# Altium schematic symbol library PREN2Lib.SchLib: 12 symbols
Pins are listed as number, name and electrical type; pins without a type are passive.

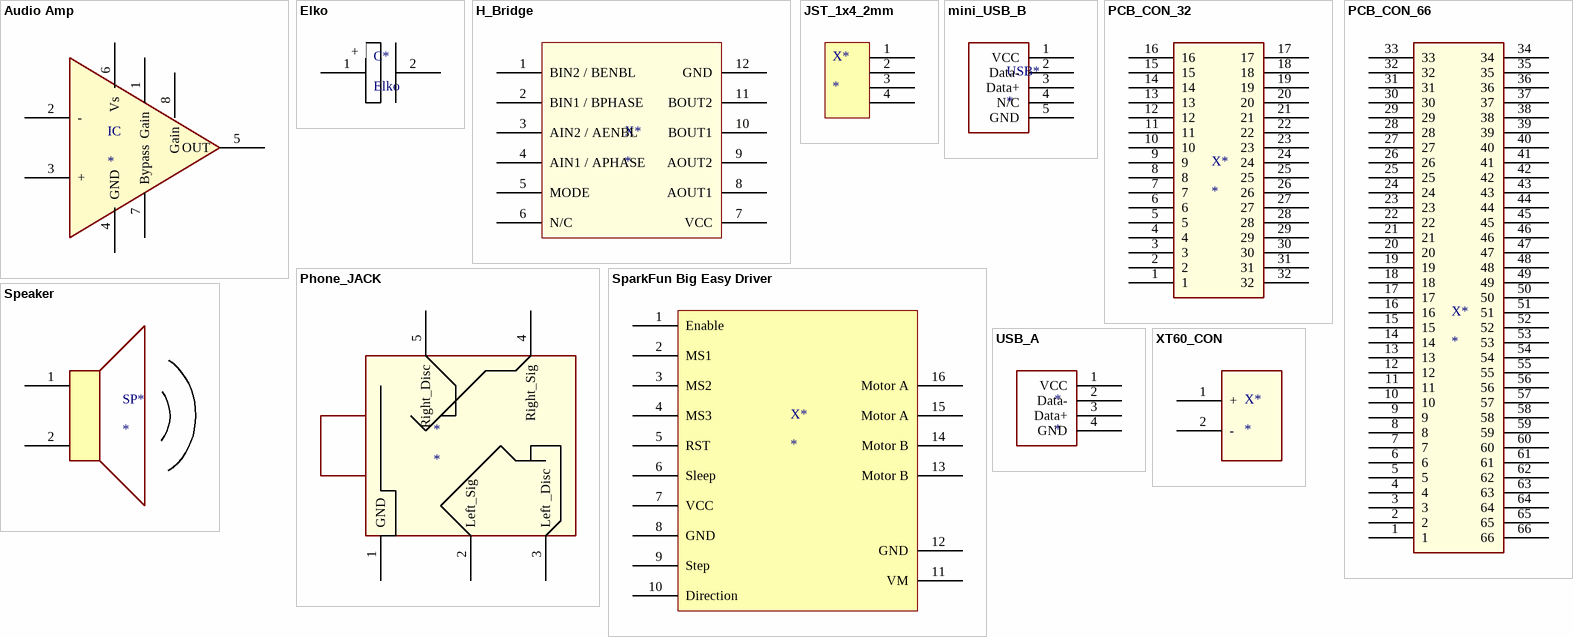
[diagram p0: symbols Audio Amp to XT60_CON]

## Audio Amp
designator IC
Audio AMP in SO-8 Package
footprint SO-8
pins: 1 Gain, 2 -, 3 +, 4 GND, 5 OUT, 6 Vs, 7 Bypass, 8 Gain

## Elko
designator C*
Electrolyt Capacitor
pins: 1, 2
text: +

## H_Bridge
designator X*
H-Bridge Shield
footprint H_Bridge (H_Bridge Shield can be Plugged in)
pins: 1 BIN2 / BENBL, 2 BIN1 / BPHASE, 3 AIN2 / AENBL, 4 AIN1 / APHASE, 5 MODE, 6 N/C, 7 VCC (power), 8 AOUT1, 9 AOUT2, 10 BOUT1, 11 BOUT2, 12 GND (power)

## JST_1x4_2mm
designator X*
JST connector single row 4 pin, 2mm grid
footprint JST_1x4_2mm_horizontal (JST Jack Connecter 2mm Grid)
pins: 1, 2, 3, 4

## mini_USB_B
designator USB*
mini-USB B smd connector
footprint mini_USB_B (mini-USB_B smd jack)
pins: 1 VCC, 2 Data-, 3 Data+, 4 N/C, 5 GND

## PCB_CON_32
designator X*
Connects a PCB with another. This scheme is either jack or plug, depends on footprint
pins: 1, 2, 3, 4, 5, 6, 7, 8, 9, 10, 11, 12, 13, 14, 15, 16, 17, 18, 19, 20, 21, 22, 23, 24, 25, 26, 27, 28, 29, 30, 31, 32

## PCB_CON_66
designator X*
Connects a PCB with another. This scheme is either jack or plug, depends on footprint
pins: 1, 2, 3, 4, 5, 6, 7, 8, 9, 10, 11, 12, 13, 14, 15, 16, 17, 18, 19, 20, 21, 22, 23, 24, 25, 26, 27, 28, 29, 30, 31, 32, 33, 34, 35, 36, 37, 38, 39, 40, 41, 42, 43, 44, 45, 46, 47, 48, 49, 50, 51, 52, 53, 54, 55, 56, 57, 58, 59, 60, 61, 62, 63, 64, 65, 66

## Phone_JACK
designator *
3.5 mm Phone Jack Stereo with Disconnect information
footprint Audio_CON 3.5mm (3.5 mm Audio Phone Jack with Disconnect Pins)
pins: 1 GND, 2 Left_Sig, 3 Left _Disc, 4 Right_Sig, 5 Right_Disc

## SparkFun Big Easy Driver
designator X*
Stepper Motor Driver with 4 wires
footprint SPARKFUN_BIG_EASY_DRIVER (Driver for stepper motor)
pins: 1 Enable, 2 MS1, 3 MS2, 4 MS3, 5 RST, 6 Sleep, 7 VCC, 8 GND, 9 Step, 10 Direction, 11 VM, 12 GND, 13 Motor B, 14 Motor B, 15 Motor A, 16 Motor A

## Speaker
designator SP*
8 Ohm Speaker
footprint Speaker (Sony Ericson Speaker)
pins: 1, 2

## USB_A
designator *
footprint USB_A (USB A jack print mounted)
pins: 1 VCC, 2 Data-, 3 Data+, 4 GND

## XT60_CON
designator X*
XT60 LiPo Accumulator Connector
footprint XT60_CON (LiPo Accumulator Connector)
pins: 1 +, 2 -